# EAGLE library part XC2V1000/456 (library Xilinx)
Virtex-II, XC2V1000 FPGA
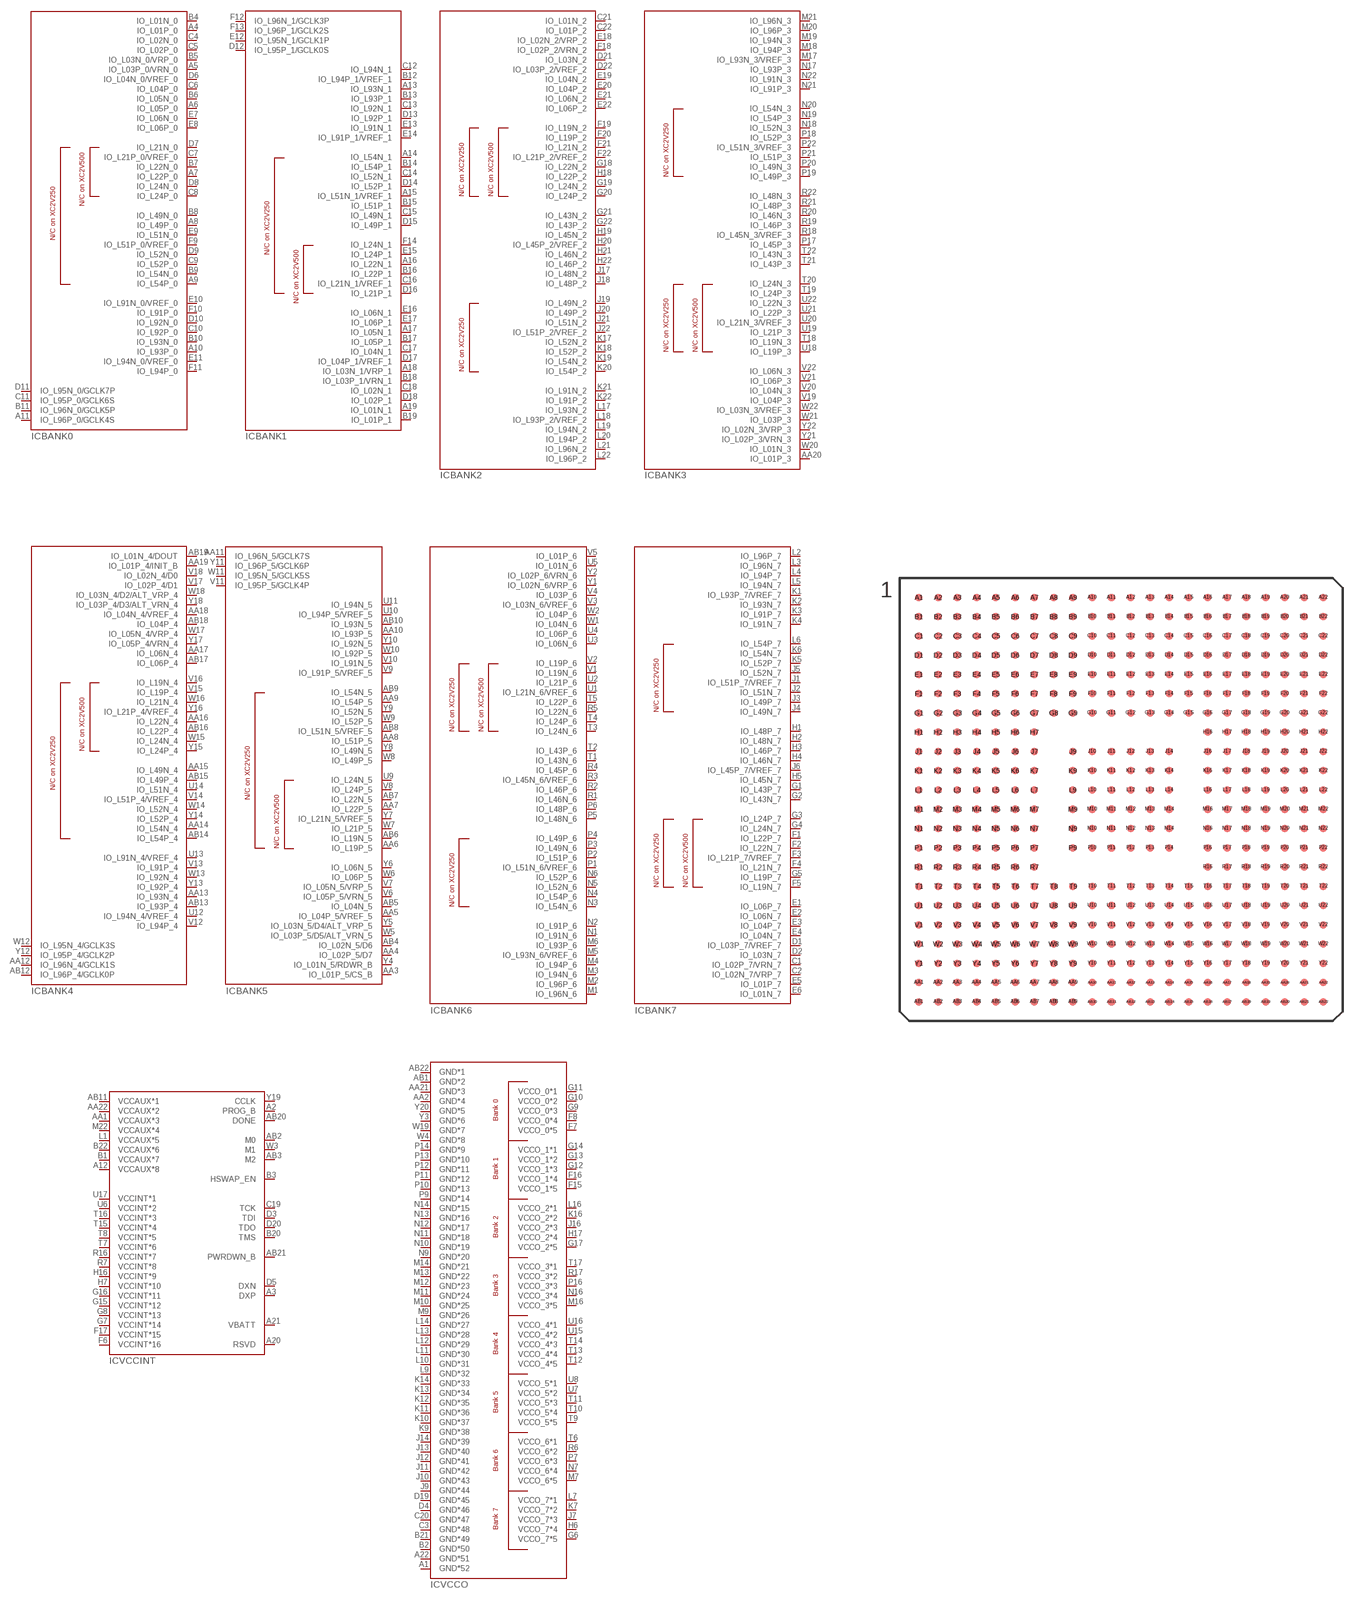
[diagram p13: symbol with the pads of FG456; footprint FG456]

Designator prefix IC; gates BANK0=XC2V/FG456-B0 BANK1=XC2V/FG456-B1 BANK3=XC2V/FG456-B3 BANK2=XC2V/FG456-B2 BANK4=XC2V/FG456-B4 BANK5=XC2V/FG456-B5 BANK6=XC2V/FG456-B6 BANK7=XC2V/FG456-B7 VCCINT=XC2V/FG456-MISC VCCO=XC2V/FG456-PWR

## XC2V1000/456-FG456  [FG456]
A1  VCCO:GND*52  pwr
A2  VCCINT:PROG_B
A3  VCCINT:DXP
A4  BANK0:IO_L01P_0
A5  BANK0:IO_L03P_0/VRN_0
A6  BANK0:IO_L05P_0
A7  BANK0:IO_L22P_0
A8  BANK0:IO_L49P_0
A9  BANK0:IO_L54P_0
A10  BANK0:IO_L93P_0
A11  BANK0:IO_L96P_0/GCLK4S
A12  VCCINT:VCCAUX*8  pwr
A13  BANK1:IO_L93N_1
A14  BANK1:IO_L54N_1
A15  BANK1:IO_L51N_1/VREF_1
A16  BANK1:IO_L22N_1
A17  BANK1:IO_L05N_1
A18  BANK1:IO_L03N_1/VRP_1
A19  BANK1:IO_L01N_1
A20  VCCINT:RSVD
A21  VCCINT:VBATT
A22  VCCO:GND*51  pwr
AA1  VCCINT:VCCAUX*3  pwr
AA2  VCCO:GND*4  pwr
AA3  BANK5:IO_L01P_5/CS_B
AA4  BANK5:IO_L02P_5/D7
AA5  BANK5:IO_L04P_5/VREF_5
AA6  BANK5:IO_L19P_5
AA7  BANK5:IO_L22P_5
AA8  BANK5:IO_L51P_5
AA9  BANK5:IO_L54P_5
AA10  BANK5:IO_L93P_5
AA11  BANK5:IO_L96N_5/GCLK7S
AA12  BANK4:IO_L96N_4/GCLK1S
AA13  BANK4:IO_L93N_4
AA14  BANK4:IO_L54N_4
AA15  BANK4:IO_L49N_4
AA16  BANK4:IO_L22N_4
AA17  BANK4:IO_L06N_4
AA18  BANK4:IO_L04N_4/VREF_4
AA19  BANK4:IO_L01P_4/INIT_B
AA20  BANK3:IO_L01P_3
AA21  VCCO:GND*3  pwr
AA22  VCCINT:VCCAUX*2  pwr
AB1  VCCO:GND*2  pwr
AB2  VCCINT:M0
AB3  VCCINT:M2
AB4  BANK5:IO_L02N_5/D6
AB5  BANK5:IO_L04N_5
AB6  BANK5:IO_L19N_5
AB7  BANK5:IO_L22N_5
AB8  BANK5:IO_L51N_5/VREF_5
AB9  BANK5:IO_L54N_5
AB10  BANK5:IO_L93N_5
AB11  VCCINT:VCCAUX*1  pwr
AB12  BANK4:IO_L96P_4/GCLK0P
AB13  BANK4:IO_L93P_4
AB14  BANK4:IO_L54P_4
AB15  BANK4:IO_L49P_4
AB16  BANK4:IO_L22P_4
AB17  BANK4:IO_L06P_4
AB18  BANK4:IO_L04P_4
AB19  BANK4:IO_L01N_4/DOUT
AB20  VCCINT:DONE
AB21  VCCINT:PWRDWN_B
AB22  VCCO:GND*1  pwr
B1  VCCINT:VCCAUX*7  pwr
B2  VCCO:GND*50  pwr
B3  VCCINT:HSWAP_EN
B4  BANK0:IO_L01N_0
B5  BANK0:IO_L03N_0/VRP_0
B6  BANK0:IO_L05N_0
B7  BANK0:IO_L22N_0
B8  BANK0:IO_L49N_0
B9  BANK0:IO_L54N_0
B10  BANK0:IO_L93N_0
B11  BANK0:IO_L96N_0/GCLK5P
B12  BANK1:IO_L94P_1/VREF_1
B13  BANK1:IO_L93P_1
B14  BANK1:IO_L54P_1
B15  BANK1:IO_L51P_1
B16  BANK1:IO_L22P_1
B17  BANK1:IO_L05P_1
B18  BANK1:IO_L03P_1/VRN_1
B19  BANK1:IO_L01P_1
B20  VCCINT:TMS
B21  VCCO:GND*49  pwr
B22  VCCINT:VCCAUX*6  pwr
C1  BANK7:IO_L02P_7/VRN_7
C2  BANK7:IO_L02N_7/VRP_7
C3  VCCO:GND*48  pwr
C4  BANK0:IO_L02N_0
C5  BANK0:IO_L02P_0
C6  BANK0:IO_L04P_0
C7  BANK0:IO_L21P_0/VREF_0
C8  BANK0:IO_L24P_0
C9  BANK0:IO_L52P_0
C10  BANK0:IO_L92P_0
C11  BANK0:IO_L95P_0/GCLK6S
C12  BANK1:IO_L94N_1
C13  BANK1:IO_L92N_1
C14  BANK1:IO_L52N_1
C15  BANK1:IO_L49N_1
C16  BANK1:IO_L21N_1/VREF_1
C17  BANK1:IO_L04N_1
C18  BANK1:IO_L02N_1
C19  VCCINT:TCK
C20  VCCO:GND*47  pwr
C21  BANK2:IO_L01N_2
C22  BANK2:IO_L01P_2
D1  BANK7:IO_L03P_7/VREF_7
D2  BANK7:IO_L03N_7
D3  VCCINT:TDI
D4  VCCO:GND*46  pwr
D5  VCCINT:DXN
D6  BANK0:IO_L04N_0/VREF_0
D7  BANK0:IO_L21N_0
D8  BANK0:IO_L24N_0
D9  BANK0:IO_L52N_0
D10  BANK0:IO_L92N_0
D11  BANK0:IO_L95N_0/GCLK7P
D12  BANK1:IO_L95P_1/GCLK0S
D13  BANK1:IO_L92P_1
D14  BANK1:IO_L52P_1
D15  BANK1:IO_L49P_1
D16  BANK1:IO_L21P_1
D17  BANK1:IO_L04P_1/VREF_1
D18  BANK1:IO_L02P_1
D19  VCCO:GND*45  pwr
D20  VCCINT:TDO
D21  BANK2:IO_L03N_2
D22  BANK2:IO_L03P_2/VREF_2
E1  BANK7:IO_L06P_7
E2  BANK7:IO_L06N_7
E3  BANK7:IO_L04P_7
E4  BANK7:IO_L04N_7
E5  BANK7:IO_L01P_7
E6  BANK7:IO_L01N_7
E7  BANK0:IO_L06N_0
E8  BANK0:IO_L06P_0
E9  BANK0:IO_L51N_0
E10  BANK0:IO_L91N_0/VREF_0
E11  BANK0:IO_L94N_0/VREF_0
E12  BANK1:IO_L95N_1/GCLK1P
E13  BANK1:IO_L91N_1
E14  BANK1:IO_L91P_1/VREF_1
E15  BANK1:IO_L24P_1
E16  BANK1:IO_L06N_1
E17  BANK1:IO_L06P_1
E18  BANK2:IO_L02N_2/VRP_2
E19  BANK2:IO_L04N_2
E20  BANK2:IO_L04P_2
E21  BANK2:IO_L06N_2
E22  BANK2:IO_L06P_2
F1  BANK7:IO_L22P_7
F2  BANK7:IO_L22N_7
F3  BANK7:IO_L21P_7/VREF_7
F4  BANK7:IO_L21N_7
F5  BANK7:IO_L19N_7
F6  VCCINT:VCCINT*16  pwr
F7  VCCO:VCCO_0*5  pwr
F8  VCCO:VCCO_0*4  pwr
F9  BANK0:IO_L51P_0/VREF_0
F10  BANK0:IO_L91P_0
F11  BANK0:IO_L94P_0
F12  BANK1:IO_L96N_1/GCLK3P
F13  BANK1:IO_L96P_1/GCLK2S
F14  BANK1:IO_L24N_1
F15  VCCO:VCCO_1*5  pwr
F16  VCCO:VCCO_1*4  pwr
F17  VCCINT:VCCINT*15  pwr
F18  BANK2:IO_L02P_2/VRN_2
F19  BANK2:IO_L19N_2
F20  BANK2:IO_L19P_2
F21  BANK2:IO_L21N_2
F22  BANK2:IO_L21P_2/VREF_2
G1  BANK7:IO_L43P_7
G2  BANK7:IO_L43N_7
G3  BANK7:IO_L24P_7
G4  BANK7:IO_L24N_7
G5  BANK7:IO_L19P_7
G6  VCCO:VCCO_7*5  pwr
G7  VCCINT:VCCINT*14  pwr
G8  VCCINT:VCCINT*13  pwr
G9  VCCO:VCCO_0*3  pwr
G10  VCCO:VCCO_0*2  pwr
G11  VCCO:VCCO_0*1  pwr
G12  VCCO:VCCO_1*3  pwr
G13  VCCO:VCCO_1*2  pwr
G14  VCCO:VCCO_1*1  pwr
G15  VCCINT:VCCINT*12  pwr
G16  VCCINT:VCCINT*11  pwr
G17  VCCO:VCCO_2*5  pwr
G18  BANK2:IO_L22N_2
G19  BANK2:IO_L24N_2
G20  BANK2:IO_L24P_2
G21  BANK2:IO_L43N_2
G22  BANK2:IO_L43P_2
H1  BANK7:IO_L48P_7
H2  BANK7:IO_L48N_7
H3  BANK7:IO_L46P_7
H4  BANK7:IO_L46N_7
H5  BANK7:IO_L45N_7
H6  VCCO:VCCO_7*4  pwr
H7  VCCINT:VCCINT*10  pwr
H16  VCCINT:VCCINT*9  pwr
H17  VCCO:VCCO_2*4  pwr
H18  BANK2:IO_L22P_2
H19  BANK2:IO_L45N_2
H20  BANK2:IO_L45P_2/VREF_2
H21  BANK2:IO_L46N_2
H22  BANK2:IO_L46P_2
J1  BANK7:IO_L51P_7/VREF_7
J2  BANK7:IO_L51N_7
J3  BANK7:IO_L49P_7
J4  BANK7:IO_L49N_7
J5  BANK7:IO_L52N_7
J6  BANK7:IO_L45P_7/VREF_7
J7  VCCO:VCCO_7*3  pwr
J9  VCCO:GND*44  pwr
J10  VCCO:GND*43  pwr
J11  VCCO:GND*42  pwr
J12  VCCO:GND*41  pwr
J13  VCCO:GND*40  pwr
J14  VCCO:GND*39  pwr
J16  VCCO:VCCO_2*3  pwr
J17  BANK2:IO_L48N_2
J18  BANK2:IO_L48P_2
J19  BANK2:IO_L49N_2
J20  BANK2:IO_L49P_2
J21  BANK2:IO_L51N_2
J22  BANK2:IO_L51P_2/VREF_2
K1  BANK7:IO_L93P_7/VREF_7
K2  BANK7:IO_L93N_7
K3  BANK7:IO_L91P_7
K4  BANK7:IO_L91N_7
K5  BANK7:IO_L52P_7
K6  BANK7:IO_L54N_7
K7  VCCO:VCCO_7*2  pwr
K9  VCCO:GND*38  pwr
K10  VCCO:GND*37  pwr
K11  VCCO:GND*36  pwr
K12  VCCO:GND*35  pwr
K13  VCCO:GND*34  pwr
K14  VCCO:GND*33  pwr
K16  VCCO:VCCO_2*2  pwr
K17  BANK2:IO_L52N_2
K18  BANK2:IO_L52P_2
K19  BANK2:IO_L54N_2
K20  BANK2:IO_L54P_2
K21  BANK2:IO_L91N_2
K22  BANK2:IO_L91P_2
L1  VCCINT:VCCAUX*5  pwr
L2  BANK7:IO_L96P_7
L3  BANK7:IO_L96N_7
L4  BANK7:IO_L94P_7
L5  BANK7:IO_L94N_7
L6  BANK7:IO_L54P_7
L7  VCCO:VCCO_7*1  pwr
L9  VCCO:GND*32  pwr
L10  VCCO:GND*31  pwr
L11  VCCO:GND*30  pwr
L12  VCCO:GND*29  pwr
L13  VCCO:GND*28  pwr
L14  VCCO:GND*27  pwr
L16  VCCO:VCCO_2*1  pwr
L17  BANK2:IO_L93N_2
L18  BANK2:IO_L93P_2/VREF_2
L19  BANK2:IO_L94N_2
L20  BANK2:IO_L94P_2
L21  BANK2:IO_L96N_2
L22  BANK2:IO_L96P_2
M1  BANK6:IO_L96N_6
M2  BANK6:IO_L96P_6
M3  BANK6:IO_L94N_6
M4  BANK6:IO_L94P_6
M5  BANK6:IO_L93N_6/VREF_6
M6  BANK6:IO_L93P_6
M7  VCCO:VCCO_6*5  pwr
M9  VCCO:GND*26  pwr
M10  VCCO:GND*25  pwr
M11  VCCO:GND*24  pwr
M12  VCCO:GND*23  pwr
M13  VCCO:GND*22  pwr
M14  VCCO:GND*21  pwr
M16  VCCO:VCCO_3*5  pwr
M17  BANK3:IO_L93N_3/VREF_3
M18  BANK3:IO_L94P_3
M19  BANK3:IO_L94N_3
M20  BANK3:IO_L96P_3
M21  BANK3:IO_L96N_3
M22  VCCINT:VCCAUX*4  pwr
N1  BANK6:IO_L91N_6
N2  BANK6:IO_L91P_6
N3  BANK6:IO_L54N_6
N4  BANK6:IO_L54P_6
N5  BANK6:IO_L52N_6
N6  BANK6:IO_L52P_6
N7  VCCO:VCCO_6*4  pwr
N9  VCCO:GND*20  pwr
N10  VCCO:GND*19  pwr
N11  VCCO:GND*18  pwr
N12  VCCO:GND*17  pwr
N13  VCCO:GND*16  pwr
N14  VCCO:GND*15  pwr
N16  VCCO:VCCO_3*4  pwr
N17  BANK3:IO_L93P_3
N18  BANK3:IO_L52N_3
N19  BANK3:IO_L54P_3
N20  BANK3:IO_L54N_3
N21  BANK3:IO_L91P_3
N22  BANK3:IO_L91N_3
P1  BANK6:IO_L51N_6/VREF_6
P2  BANK6:IO_L51P_6
P3  BANK6:IO_L49N_6
P4  BANK6:IO_L49P_6
P5  BANK6:IO_L48N_6
P6  BANK6:IO_L48P_6
P7  VCCO:VCCO_6*3  pwr
P9  VCCO:GND*14  pwr
P10  VCCO:GND*13  pwr
P11  VCCO:GND*12  pwr
P12  VCCO:GND*11  pwr
P13  VCCO:GND*10  pwr
P14  VCCO:GND*9  pwr
P16  VCCO:VCCO_3*3  pwr
P17  BANK3:IO_L45P_3
P18  BANK3:IO_L52P_3
P19  BANK3:IO_L49P_3
P20  BANK3:IO_L49N_3
P21  BANK3:IO_L51P_3
P22  BANK3:IO_L51N_3/VREF_3
R1  BANK6:IO_L46N_6
R2  BANK6:IO_L46P_6
R3  BANK6:IO_L45N_6/VREF_6
R4  BANK6:IO_L45P_6
R5  BANK6:IO_L22N_6
R6  VCCO:VCCO_6*2  pwr
R7  VCCINT:VCCINT*8  pwr
R16  VCCINT:VCCINT*7  pwr
R17  VCCO:VCCO_3*2  pwr
R18  BANK3:IO_L45N_3/VREF_3
R19  BANK3:IO_L46P_3
R20  BANK3:IO_L46N_3
R21  BANK3:IO_L48P_3
R22  BANK3:IO_L48N_3
T1  BANK6:IO_L43N_6
T2  BANK6:IO_L43P_6
T3  BANK6:IO_L24N_6
T4  BANK6:IO_L24P_6
T5  BANK6:IO_L22P_6
T6  VCCO:VCCO_6*1  pwr
T7  VCCINT:VCCINT*6  pwr
T8  VCCINT:VCCINT*5  pwr
T9  VCCO:VCCO_5*5  pwr
T10  VCCO:VCCO_5*4  pwr
T11  VCCO:VCCO_5*3  pwr
T12  VCCO:VCCO_4*5  pwr
T13  VCCO:VCCO_4*4  pwr
T14  VCCO:VCCO_4*3  pwr
T15  VCCINT:VCCINT*4  pwr
T16  VCCINT:VCCINT*3  pwr
T17  VCCO:VCCO_3*1  pwr
T18  BANK3:IO_L19N_3
T19  BANK3:IO_L24P_3
T20  BANK3:IO_L24N_3
T21  BANK3:IO_L43P_3
T22  BANK3:IO_L43N_3
U1  BANK6:IO_L21N_6/VREF_6
U2  BANK6:IO_L21P_6
U3  BANK6:IO_L06N_6
U4  BANK6:IO_L06P_6
U5  BANK6:IO_L01N_6
U6  VCCINT:VCCINT*2  pwr
U7  VCCO:VCCO_5*2  pwr
U8  VCCO:VCCO_5*1  pwr
U9  BANK5:IO_L24N_5
U10  BANK5:IO_L94P_5/VREF_5
U11  BANK5:IO_L94N_5
U12  BANK4:IO_L94N_4/VREF_4
U13  BANK4:IO_L91N_4/VREF_4
U14  BANK4:IO_L51N_4
U15  VCCO:VCCO_4*2  pwr
U16  VCCO:VCCO_4*1  pwr
U17  VCCINT:VCCINT*1  pwr
U18  BANK3:IO_L19P_3
U19  BANK3:IO_L21P_3
U20  BANK3:IO_L21N_3/VREF_3
U21  BANK3:IO_L22P_3
U22  BANK3:IO_L22N_3
V1  BANK6:IO_L19N_6
V2  BANK6:IO_L19P_6
V3  BANK6:IO_L03N_6/VREF_6
V4  BANK6:IO_L03P_6
V5  BANK6:IO_L01P_6
V6  BANK5:IO_L05P_5/VRN_5
V7  BANK5:IO_L05N_5/VRP_5
V8  BANK5:IO_L24P_5
V9  BANK5:IO_L91P_5/VREF_5
V10  BANK5:IO_L91N_5
V11  BANK5:IO_L95P_5/GCLK4P
V12  BANK4:IO_L94P_4
V13  BANK4:IO_L91P_4
V14  BANK4:IO_L51P_4/VREF_4
V15  BANK4:IO_L19P_4
V16  BANK4:IO_L19N_4
V17  BANK4:IO_L02P_4/D1
V18  BANK4:IO_L02N_4/D0
V19  BANK3:IO_L04P_3
V20  BANK3:IO_L04N_3
V21  BANK3:IO_L06P_3
V22  BANK3:IO_L06N_3
W1  BANK6:IO_L04N_6
W2  BANK6:IO_L04P_6
W3  VCCINT:M1
W4  VCCO:GND*8  pwr
W5  BANK5:IO_L03P_5/D5/ALT_VRN_5
W6  BANK5:IO_L06P_5
W7  BANK5:IO_L21P_5
W8  BANK5:IO_L49P_5
W9  BANK5:IO_L52P_5
W10  BANK5:IO_L92P_5
W11  BANK5:IO_L95N_5/GCLK5S
W12  BANK4:IO_L95N_4/GCLK3S
W13  BANK4:IO_L92N_4
W14  BANK4:IO_L52N_4
W15  BANK4:IO_L24N_4
W16  BANK4:IO_L21N_4
W17  BANK4:IO_L05N_4/VRP_4
W18  BANK4:IO_L03N_4/D2/ALT_VRP_4
W19  VCCO:GND*7  pwr
W20  BANK3:IO_L01N_3
W21  BANK3:IO_L03P_3
W22  BANK3:IO_L03N_3/VREF_3
Y1  BANK6:IO_L02N_6/VRP_6
Y2  BANK6:IO_L02P_6/VRN_6
Y3  VCCO:GND*6  pwr
Y4  BANK5:IO_L01N_5/RDWR_B
Y5  BANK5:IO_L03N_5/D4/ALT_VRP_5
Y6  BANK5:IO_L06N_5
Y7  BANK5:IO_L21N_5/VREF_5
Y8  BANK5:IO_L49N_5
Y9  BANK5:IO_L52N_5
Y10  BANK5:IO_L92N_5
Y11  BANK5:IO_L96P_5/GCLK6P
Y12  BANK4:IO_L95P_4/GCLK2P
Y13  BANK4:IO_L92P_4
Y14  BANK4:IO_L52P_4
Y15  BANK4:IO_L24P_4
Y16  BANK4:IO_L21P_4/VREF_4
Y17  BANK4:IO_L05P_4/VRN_4
Y18  BANK4:IO_L03P_4/D3/ALT_VRN_4
Y19  VCCINT:CCLK
Y20  VCCO:GND*5  pwr
Y21  BANK3:IO_L02P_3/VRN_3
Y22  BANK3:IO_L02N_3/VRP_3

## Footprint FG456 (pad centres in mm)
smd 0.4 x 0.4: A1 -10.5,10.5; A2 -9.5,10.5; A3 -8.5,10.5; A4 -7.5,10.5; A5 -6.5,10.5; A6 -5.5,10.5; A7 -4.5,10.5; A8 -3.5,10.5; A9 -2.5,10.5; A10 -1.5,10.5; A11 -0.5,10.5; A12 0.5,10.5; A13 1.5,10.5; A14 2.5,10.5; A15 3.5,10.5; A16 4.5,10.5; A17 5.5,10.5; A18 6.5,10.5; A19 7.5,10.5; A20 8.5,10.5; A21 9.5,10.5; A22 10.5,10.5; AA1 -10.5,-9.5; AA2 -9.5,-9.5; AA3 -8.5,-9.5; AA4 -7.5,-9.5; AA5 -6.5,-9.5; AA6 -5.5,-9.5; AA7 -4.5,-9.5; AA8 -3.5,-9.5; AA9 -2.5,-9.5; AA10 -1.5,-9.5; AA11 -0.5,-9.5; AA12 0.5,-9.5; AA13 1.5,-9.5; AA14 2.5,-9.5; AA15 3.5,-9.5; AA16 4.5,-9.5; AA17 5.5,-9.5; AA18 6.5,-9.5; AA19 7.5,-9.5; AA20 8.5,-9.5; AA21 9.5,-9.5; AA22 10.5,-9.5; AB1 -10.5,-10.5; AB2 -9.5,-10.5; AB3 -8.5,-10.5; AB4 -7.5,-10.5; AB5 -6.5,-10.5; AB6 -5.5,-10.5; AB7 -4.5,-10.5; AB8 -3.5,-10.5; AB9 -2.5,-10.5; AB10 -1.5,-10.5; AB11 -0.5,-10.5; AB12 0.5,-10.5; AB13 1.5,-10.5; AB14 2.5,-10.5; AB15 3.5,-10.5; AB16 4.5,-10.5; AB17 5.5,-10.5; AB18 6.5,-10.5; AB19 7.5,-10.5; AB20 8.5,-10.5; AB21 9.5,-10.5; AB22 10.5,-10.5; B1 -10.5,9.5; B2 -9.5,9.5; B3 -8.5,9.5; B4 -7.5,9.5; B5 -6.5,9.5; B6 -5.5,9.5; B7 -4.5,9.5; B8 -3.5,9.5; B9 -2.5,9.5; B10 -1.5,9.5; B11 -0.5,9.5; B12 0.5,9.5; B13 1.5,9.5; B14 2.5,9.5; B15 3.5,9.5; B16 4.5,9.5; B17 5.5,9.5; B18 6.5,9.5; B19 7.5,9.5; B20 8.5,9.5; B21 9.5,9.5; B22 10.5,9.5; C1 -10.5,8.5; C2 -9.5,8.5; C3 -8.5,8.5; C4 -7.5,8.5; C5 -6.5,8.5; C6 -5.5,8.5; C7 -4.5,8.5; C8 -3.5,8.5; C9 -2.5,8.5; C10 -1.5,8.5; C11 -0.5,8.5; C12 0.5,8.5; C13 1.5,8.5; C14 2.5,8.5; C15 3.5,8.5; C16 4.5,8.5; C17 5.5,8.5; C18 6.5,8.5; C19 7.5,8.5; C20 8.5,8.5; C21 9.5,8.5; C22 10.5,8.5; D1 -10.5,7.5; D2 -9.5,7.5; D3 -8.5,7.5; D4 -7.5,7.5; D5 -6.5,7.5; D6 -5.5,7.5; D7 -4.5,7.5; D8 -3.5,7.5; D9 -2.5,7.5; D10 -1.5,7.5; D11 -0.5,7.5; D12 0.5,7.5; D13 1.5,7.5; D14 2.5,7.5; D15 3.5,7.5; D16 4.5,7.5; D17 5.5,7.5; D18 6.5,7.5; D19 7.5,7.5; D20 8.5,7.5; D21 9.5,7.5; D22 10.5,7.5; E1 -10.5,6.5; E2 -9.5,6.5; E3 -8.5,6.5; E4 -7.5,6.5; E5 -6.5,6.5; E6 -5.5,6.5; E7 -4.5,6.5; E8 -3.5,6.5; E9 -2.5,6.5; E10 -1.5,6.5; E11 -0.5,6.5; E12 0.5,6.5; E13 1.5,6.5; E14 2.5,6.5; E15 3.5,6.5; E16 4.5,6.5; E17 5.5,6.5; E18 6.5,6.5; E19 7.5,6.5; E20 8.5,6.5; E21 9.5,6.5; E22 10.5,6.5; F1 -10.5,5.5; F2 -9.5,5.5; F3 -8.5,5.5; F4 -7.5,5.5; F5 -6.5,5.5; F6 -5.5,5.5; F7 -4.5,5.5; F8 -3.5,5.5; F9 -2.5,5.5; F10 -1.5,5.5; F11 -0.5,5.5; F12 0.5,5.5; F13 1.5,5.5; F14 2.5,5.5; F15 3.5,5.5; F16 4.5,5.5; F17 5.5,5.5; F18 6.5,5.5; F19 7.5,5.5; F20 8.5,5.5; F21 9.5,5.5; F22 10.5,5.5; G1 -10.5,4.5; G2 -9.5,4.5; G3 -8.5,4.5; G4 -7.5,4.5; G5 -6.5,4.5; G6 -5.5,4.5; G7 -4.5,4.5; G8 -3.5,4.5; G9 -2.5,4.5; G10 -1.5,4.5; G11 -0.5,4.5; G12 0.5,4.5; G13 1.5,4.5; G14 2.5,4.5; G15 3.5,4.5; G16 4.5,4.5; G17 5.5,4.5; G18 6.5,4.5; G19 7.5,4.5; G20 8.5,4.5; G21 9.5,4.5; G22 10.5,4.5; H1 -10.5,3.5; H2 -9.5,3.5; H3 -8.5,3.5; H4 -7.5,3.5; H5 -6.5,3.5; H6 -5.5,3.5; H7 -4.5,3.5; H16 4.5,3.5; H17 5.5,3.5; H18 6.5,3.5; H19 7.5,3.5; H20 8.5,3.5; H21 9.5,3.5; H22 10.5,3.5; J1 -10.5,2.5; J2 -9.5,2.5; J3 -8.5,2.5; J4 -7.5,2.5; J5 -6.5,2.5; J6 -5.5,2.5; J7 -4.5,2.5; J9 -2.5,2.5; J10 -1.5,2.5; J11 -0.5,2.5; J12 0.5,2.5; J13 1.5,2.5; J14 2.5,2.5; J16 4.5,2.5; J17 5.5,2.5; J18 6.5,2.5; J19 7.5,2.5; J20 8.5,2.5; J21 9.5,2.5; J22 10.5,2.5; K1 -10.5,1.5; K2 -9.5,1.5; K3 -8.5,1.5; K4 -7.5,1.5; K5 -6.5,1.5; K6 -5.5,1.5; K7 -4.5,1.5; K9 -2.5,1.5; K10 -1.5,1.5; K11 -0.5,1.5; K12 0.5,1.5; K13 1.5,1.5; K14 2.5,1.5; K16 4.5,1.5; K17 5.5,1.5; K18 6.5,1.5; K19 7.5,1.5; K20 8.5,1.5; K21 9.5,1.5; K22 10.5,1.5; L1 -10.5,0.5; L2 -9.5,0.5; L3 -8.5,0.5; L4 -7.5,0.5; L5 -6.5,0.5; L6 -5.5,0.5; L7 -4.5,0.5; L9 -2.5,0.5; L10 -1.5,0.5; L11 -0.5,0.5; L12 0.5,0.5; L13 1.5,0.5; L14 2.5,0.5; L16 4.5,0.5; L17 5.5,0.5; L18 6.5,0.5; L19 7.5,0.5; L20 8.5,0.5; L21 9.5,0.5; L22 10.5,0.5; M1 -10.5,-0.5; M2 -9.5,-0.5; M3 -8.5,-0.5; M4 -7.5,-0.5; M5 -6.5,-0.5; M6 -5.5,-0.5; M7 -4.5,-0.5; M9 -2.5,-0.5; M10 -1.5,-0.5; M11 -0.5,-0.5; M12 0.5,-0.5; M13 1.5,-0.5; M14 2.5,-0.5; M16 4.5,-0.5; M17 5.5,-0.5; M18 6.5,-0.5; M19 7.5,-0.5; M20 8.5,-0.5; M21 9.5,-0.5; M22 10.5,-0.5; N1 -10.5,-1.5; N2 -9.5,-1.5; N3 -8.5,-1.5; N4 -7.5,-1.5; N5 -6.5,-1.5; N6 -5.5,-1.5; N7 -4.5,-1.5; N9 -2.5,-1.5; N10 -1.5,-1.5; N11 -0.5,-1.5; N12 0.5,-1.5; N13 1.5,-1.5; N14 2.5,-1.5; N16 4.5,-1.5; N17 5.5,-1.5; N18 6.5,-1.5; N19 7.5,-1.5; N20 8.5,-1.5; N21 9.5,-1.5; N22 10.5,-1.5; P1 -10.5,-2.5; P2 -9.5,-2.5; P3 -8.5,-2.5; P4 -7.5,-2.5; P5 -6.5,-2.5; P6 -5.5,-2.5; P7 -4.5,-2.5; P9 -2.5,-2.5; P10 -1.5,-2.5; P11 -0.5,-2.5; P12 0.5,-2.5; P13 1.5,-2.5; P14 2.5,-2.5; P16 4.5,-2.5; P17 5.5,-2.5; P18 6.5,-2.5; P19 7.5,-2.5; P20 8.5,-2.5; P21 9.5,-2.5; P22 10.5,-2.5; R1 -10.5,-3.5; R2 -9.5,-3.5; R3 -8.5,-3.5; R4 -7.5,-3.5; R5 -6.5,-3.5; R6 -5.5,-3.5; R7 -4.5,-3.5; R16 4.5,-3.5; R17 5.5,-3.5; R18 6.5,-3.5; R19 7.5,-3.5; R20 8.5,-3.5; R21 9.5,-3.5; R22 10.5,-3.5; T1 -10.5,-4.5; T2 -9.5,-4.5; T3 -8.5,-4.5; T4 -7.5,-4.5; T5 -6.5,-4.5; T6 -5.5,-4.5; T7 -4.5,-4.5; T8 -3.5,-4.5; T9 -2.5,-4.5; T10 -1.5,-4.5; T11 -0.5,-4.5; T12 0.5,-4.5; T13 1.5,-4.5; T14 2.5,-4.5; T15 3.5,-4.5; T16 4.5,-4.5; T17 5.5,-4.5; T18 6.5,-4.5; T19 7.5,-4.5; T20 8.5,-4.5; T21 9.5,-4.5; T22 10.5,-4.5; U1 -10.5,-5.5; U2 -9.5,-5.5; U3 -8.5,-5.5; U4 -7.5,-5.5; U5 -6.5,-5.5; U6 -5.5,-5.5; U7 -4.5,-5.5; U8 -3.5,-5.5; U9 -2.5,-5.5; U10 -1.5,-5.5; U11 -0.5,-5.5; U12 0.5,-5.5; U13 1.5,-5.5; U14 2.5,-5.5; U15 3.5,-5.5; U16 4.5,-5.5; U17 5.5,-5.5; U18 6.5,-5.5; U19 7.5,-5.5; U20 8.5,-5.5; U21 9.5,-5.5; U22 10.5,-5.5; V1 -10.5,-6.5; V2 -9.5,-6.5; V3 -8.5,-6.5; V4 -7.5,-6.5; V5 -6.5,-6.5; V6 -5.5,-6.5; V7 -4.5,-6.5; V8 -3.5,-6.5; V9 -2.5,-6.5; V10 -1.5,-6.5; V11 -0.5,-6.5; V12 0.5,-6.5; V13 1.5,-6.5; V14 2.5,-6.5; V15 3.5,-6.5; V16 4.5,-6.5; V17 5.5,-6.5; V18 6.5,-6.5; V19 7.5,-6.5; V20 8.5,-6.5; V21 9.5,-6.5; V22 10.5,-6.5; W1 -10.5,-7.5; W2 -9.5,-7.5; W3 -8.5,-7.5; W4 -7.5,-7.5; W5 -6.5,-7.5; W6 -5.5,-7.5; W7 -4.5,-7.5; W8 -3.5,-7.5; W9 -2.5,-7.5; W10 -1.5,-7.5; W11 -0.5,-7.5; W12 0.5,-7.5; W13 1.5,-7.5; W14 2.5,-7.5; W15 3.5,-7.5; W16 4.5,-7.5; W17 5.5,-7.5; W18 6.5,-7.5; W19 7.5,-7.5; W20 8.5,-7.5; W21 9.5,-7.5; W22 10.5,-7.5; Y1 -10.5,-8.5; Y2 -9.5,-8.5; Y3 -8.5,-8.5; Y4 -7.5,-8.5; Y5 -6.5,-8.5; Y6 -5.5,-8.5; Y7 -4.5,-8.5; Y8 -3.5,-8.5; Y9 -2.5,-8.5; Y10 -1.5,-8.5; Y11 -0.5,-8.5; Y12 0.5,-8.5; Y13 1.5,-8.5; Y14 2.5,-8.5; Y15 3.5,-8.5; Y16 4.5,-8.5; Y17 5.5,-8.5; Y18 6.5,-8.5; Y19 7.5,-8.5; Y20 8.5,-8.5; Y21 9.5,-8.5; Y22 10.5,-8.5